# Altium footprint library Custom.PcbLib: 66 footprints (part 5 of 5)
Each footprint in its own frame and in the unit in brackets; x right, y up, seen from the top. Pads: shape width x height; smd on the part's side, far side on the other; paste and mask are expansions set on the pad; w line width, h text height; cw(c..) or ccw(c..) is an arc to the next point about the centre after c.
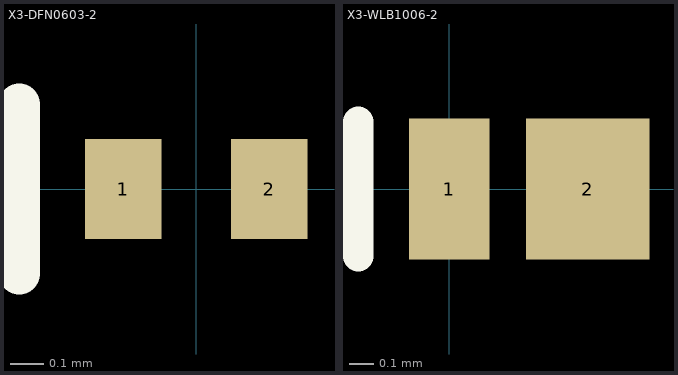
[diagram p4: the footprints below, top view; thin cyan lines are the x and y axes]

## X3-DFN0603-2 [mm]
pads (2):
  rect 0.23x0.3 smd: 1(-0.22,0) 2(0.22,0)
Top Overlay:
  lines w0.127: -0.533,-0.254 -0.533,0.254

## X3-WLB1006-2 [mm]
pads (2):
  rect 0.332x0.579 smd paste-0.05 mask+0.05: 1(0,0)
  rect 0.507x0.579 smd paste-0.05 mask+0.05: 2(0.57,0)
Top Overlay:
  lines w0.127: -0.375,-0.275 -0.375,0.275